# EAGLE library part QT113-G (library _RoweTel)
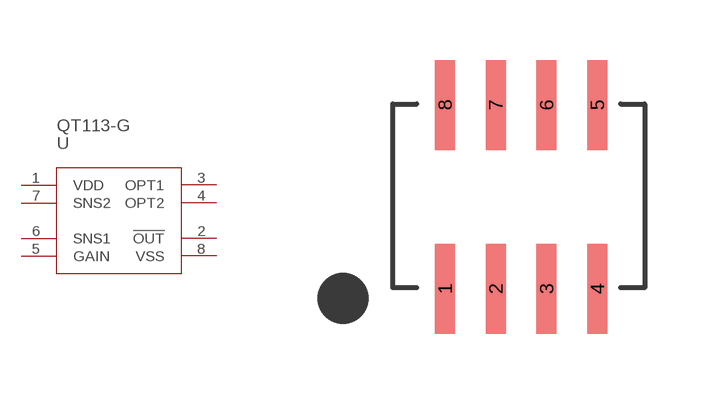
[diagram p75: symbol with the pads of SOIC8; footprint SOIC8]

Designator prefix U

## QT113-G  [SOIC8]
1  VDD
2  !OUT
3  OPT1
4  OPT2
5  GAIN
6  SNS1
7  SNS2
8  VSS

## Footprint SOIC8 (pad centres in mm)
smd 0.5 x 2.25: 1 -1.9,-2.3; 2 -0.63,-2.3; 3 0.64,-2.3; 4 1.91,-2.3; 5 1.91,2.3; 6 0.64,2.3; 7 -0.63,2.3; 8 -1.9,2.3